# Altium footprint library XAL6030-222MEB.PcbLib: 1 footprints
Each footprint in its own frame and in the unit in brackets; x right, y up, seen from the top. Pads: shape width x height; smd on the part's side, far side on the other; paste and mask are expansions set on the pad; w line width, h text height; cw(c..) or ccw(c..) is an arc to the next point about the centre after c.
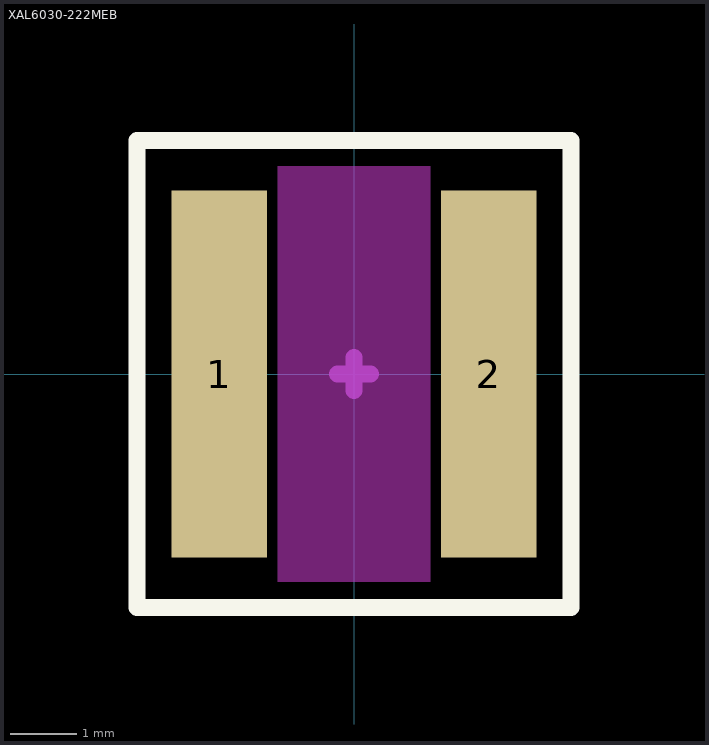
[diagram p0: the footprint, top view; thin cyan lines are the x and y axes]

## XAL6030-222MEB [mm]
pads (2):
  rect 1.43x5.5 smd: 1(-2.02,0) 2(2.02,0)
Top Layer keep-out:
  rectangle: -1.15,-3.12 1.15,3.12
Top Overlay:
  lines w0.254: -3.25,-3.5 -3.25,3.5 3.25,3.5 3.25,-3.5 -3.25,-3.5
Mechanical 15:
  lines w0.254: -0.25,0 0.25,0 ; 0,-0.25 0,0.25
3D body "XAL6030-222.STEP": height 2.1, standoff 0, extent -3.28,-3.38 3.28,3.38